# Altium footprint library project-pcb-library.PcbLib: 9 footprints
Each footprint in its own frame and in the unit in brackets; x right, y up, seen from the top. Pads: shape width x height; smd on the part's side, far side on the other; paste and mask are expansions set on the pad; w line width, h text height; cw(c..) or ccw(c..) is an arc to the next point about the centre after c.
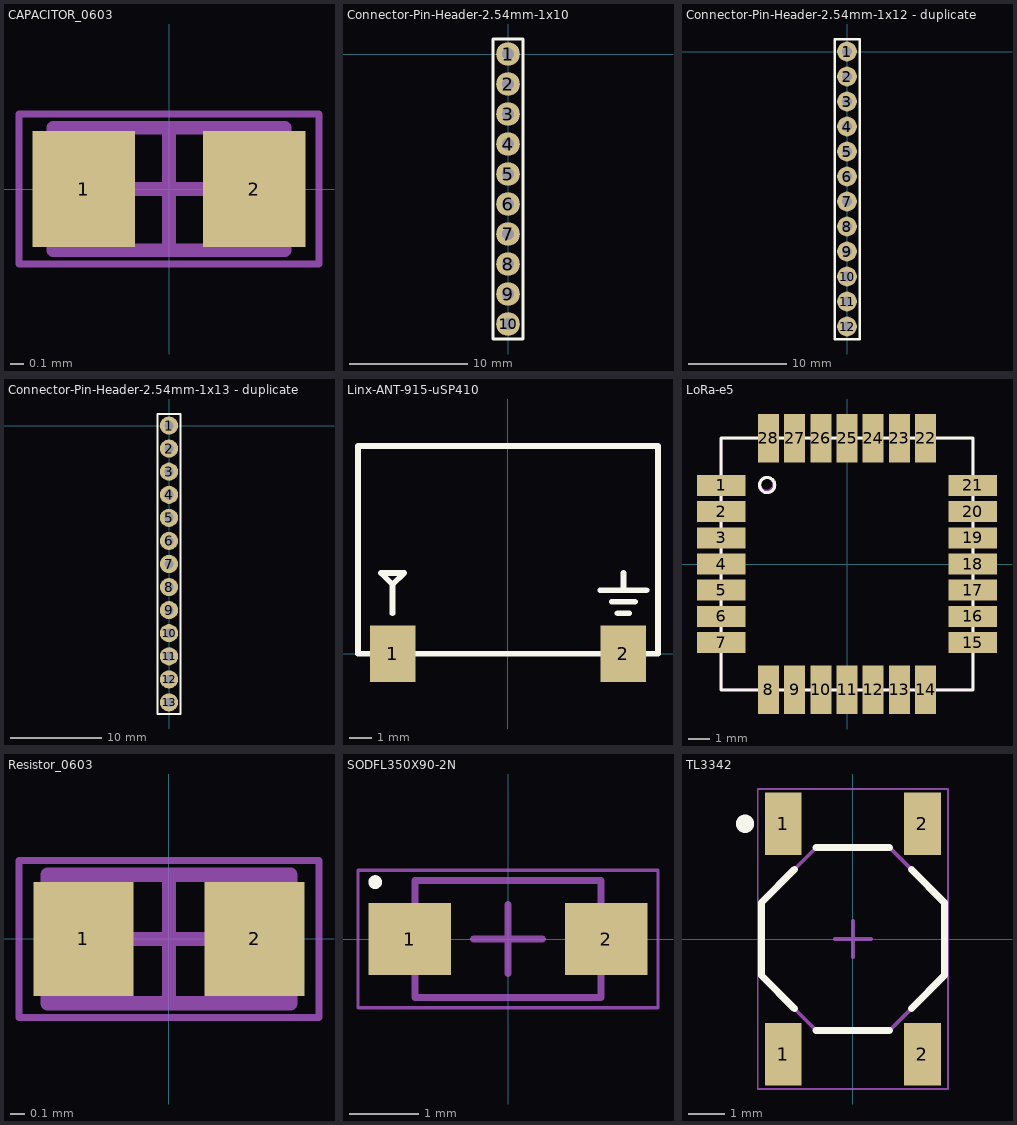
[diagram p0: the footprints below, top view; thin cyan lines are the x and y axes]

## CAPACITOR_0603 [mm] "Chip Capacitor, 2-Leads, Body 1.60x0.78mm, IPC High Density"
height 0.55
pads (2):
  rect 0.75x0.85 smd: 1(-0.625,0) 2(0.625,0)
Mechanical 13:
  lines w0.1: -0.85,-0.45 -0.85,0.45 0.85,0.45 0.85,-0.45 -0.85,-0.45
Mechanical 15:
  lines w0.05: -1.1,-0.55 -1.1,0.55 1.1,0.55 1.1,-0.55 -1.1,-0.55
  lines w0.1: -0.45,0 0.45,0 ; 0,-0.45 0,0.45
3D body "CAPC1608X06L.step": height 0.55, standoff 0, extent -0.85,-0.45 0.85,0.45

## Connector-Pin-Header-2.54mm-1x10 [mm] "2.54mm 1x120 Pin Header"
pads (10):
  round 2 hole 1.02: 1(0,0) 2(0,-2.54) 3(0,-5.08) 4(0,-7.62) 5(0,-10.16) 6(0,-12.7) 7(0,-15.24) 8(0,-17.78) 9(0,-20.32) 10(0,-22.86)
Top Overlay:
  lines w0.254: -1.27,-24.13 1.27,-24.13 1.27,1.27 -1.27,1.27 -1.27,-24.13

## Connector-Pin-Header-2.54mm-1x12 - duplicate [mm] "2.54mm 1x12 Pin Header"
pads (12):
  round 2 hole 1.02: 1(0,0) 2(0,-2.54) 3(0,-5.08) 4(0,-7.62) 5(0,-10.16) 6(0,-12.7) 7(0,-15.24) 8(0,-17.78) 9(0,-20.32) 10(0,-22.86) 11(0,-25.4) 12(0,-27.94)
Top Overlay:
  lines w0.254: -1.27,-29.21 -1.27,1.27 1.27,1.27 1.27,-29.21 -1.27,-29.21

## Connector-Pin-Header-2.54mm-1x13 - duplicate [mm] "2.54mm 1x13 Pin Header"
pads (13):
  round 2 hole 1.02: 1(0,0) 2(0,-2.54) 3(0,-5.08) 4(0,-7.62) 5(0,-10.16) 6(0,-12.7) 7(0,-15.24) 8(0,-17.78) 9(0,-20.32) 10(0,-22.86) 11(0,-25.4) 12(0,-27.94) 13(0,-30.48)
Top Overlay:
  lines w0.254: -1.27,-31.75 -1.27,1.27 1.27,1.27 1.27,-31.75 -1.27,-31.75

## Linx-ANT-915-uSP410 [mm] "915 MHz Antenna"
pads (2):
  rect 2x2.5 smd: 1(-5.08,0) 2(5.08,0)
Top Overlay:
  lines w0.254: -5.08,1.778 -5.08,3.048 ; 4.064,2.794 6.096,2.794 ; 4.572,2.286 5.588,2.286 ; 4.826,1.778 5.334,1.778 ; 5.08,2.794 5.08,3.556 ; -5.08,3.048 -5.588,3.556 -4.572,3.556 -5.08,3.048 ; -6.604,0 6.604,0 6.604,9.144 -6.604,9.144 -6.604,0
3D body: height 2.79, standoff 0, extent -6.604,0 6.604,9.144

## LoRa-e5 [mm]
pads (28):
  rect 2.3x1 smd: 1(-6,3.75) 2(-6,2.5) 3(-6,1.25) 4(-6,0) 5(-6,-1.25) 6(-6,-2.5) 7(-6,-3.75) 15(6,-3.75) 16(6,-2.5) 17(6,-1.25) 18(6,0) 19(6,1.25) 20(6,2.5) 21(6,3.75)
  rect 1x2.3 smd: 8(-3.75,-6) 9(-2.5,-6) 10(-1.25,-6) 11(0,-6) 12(1.25,-6) 13(2.5,-6) 14(3.75,-6) 22(3.75,6) 23(2.5,6) 24(1.25,6) 25(0,6) 26(-1.25,6) 27(-2.5,6) 28(-3.75,6)
Top Overlay:
  circle w0.15: c-3.805,3.763 r0.362
  lines w0.15: -6,-6 -6,6 6,6 6,-6 -6,-6
Mechanical 6:
  circle w0.12: c-3.825,3.803 r0.316
  lines w0.12: -6,-6 -6,6 6,6 6,-6 -6,-6
3D body: height 2.5, standoff 0, extent -5.969,-5.969 5.969,6.096

## Resistor_0603 [mm]
pads (2):
  rect 0.7x0.8 smd: 1(-0.6,0) 2(0.6,0)
Mechanical 13:
  lines w0.1: -0.85,-0.45 -0.85,0.45 0.85,0.45 0.85,-0.45 -0.85,-0.45
Mechanical 15:
  lines w0.05: -1.05,-0.55 -1.05,0.55 1.05,0.55 1.05,-0.55 -1.05,-0.55
  lines w0.1: -0.45,0 0.45,0 ; 0,-0.45 0,0.45
3D body "RESC1608X06L.step": height 0.55, standoff 0, extent -0.85,-0.45 0.85,0.45

## SODFL350X90-2N [mm] "SODFL, 2-Leads, Body 1.60x3.50mm, IPC Medium Density"
height 0.9
pads (2):
  rect 1.2x1.05 smd: 1(-1.425,0) 2(1.425,0)
Top Overlay:
  circle w0.1: c-1.925,0.825 r0.05
Mechanical 13:
  lines w0.1: -1.35,-0.85 1.35,-0.85 1.35,0.85 -1.35,0.85 -1.35,-0.85
Mechanical 15:
  lines w0.05: -2.175,-1 2.175,-1 2.175,1 -2.175,1 -2.175,-1
  lines w0.1: -0.5,0 0.5,0 ; 0,-0.5 0,0.5
3D body "SODFL350X90-2N.step": height 0.9, standoff 0, extent -1.75,-0.85 1.75,0.85

## TL3342 [mm] "Tactile Button Switch"
pads (4):
  rect 1x1.7 smd: 1(-1.9,-3.15) 1(-1.9,3.15) 2(1.9,-3.15) 2(1.9,3.15)
Top Overlay:
  circle w0.25: c-2.95,3.15 r0.125
  lines w0.2: -1.6,-1.9 -2.5,-1 -2.5,1 -1.6,1.9 ; -1,-2.5 1,-2.5 ; -1,2.5 1,2.5 ; 1.6,-1.9 2.5,-1 2.5,1 1.6,1.9
Mechanical 13:
  lines w0.1: -2.5,-1 -2.5,1 -1,2.5 1,2.5 2.5,1 2.5,-1 1,-2.5 -1,-2.5 -2.5,-1
Mechanical 15:
  lines w0.05: -2.6,-4.1 -2.6,4.1 2.6,4.1 2.6,-4.1 -2.6,-4.1
  lines w0.1: -0.5,0 0.5,0 ; 0,-0.5 0,0.5
3D body: height 1.2, standoff 0.8, extent -1.899,-1.899 1.899,1.899
3D body: height 1.5, standoff 1.2, extent -0.999,-0.999 0.999,0.999
3D body: height 0.8, standoff 0, extent -2.5,-2.5 2.5,2.5